# Altium integrated library Capacitor - Aluminium TH.IntLib: 4591 symbols (part 44 of 68)
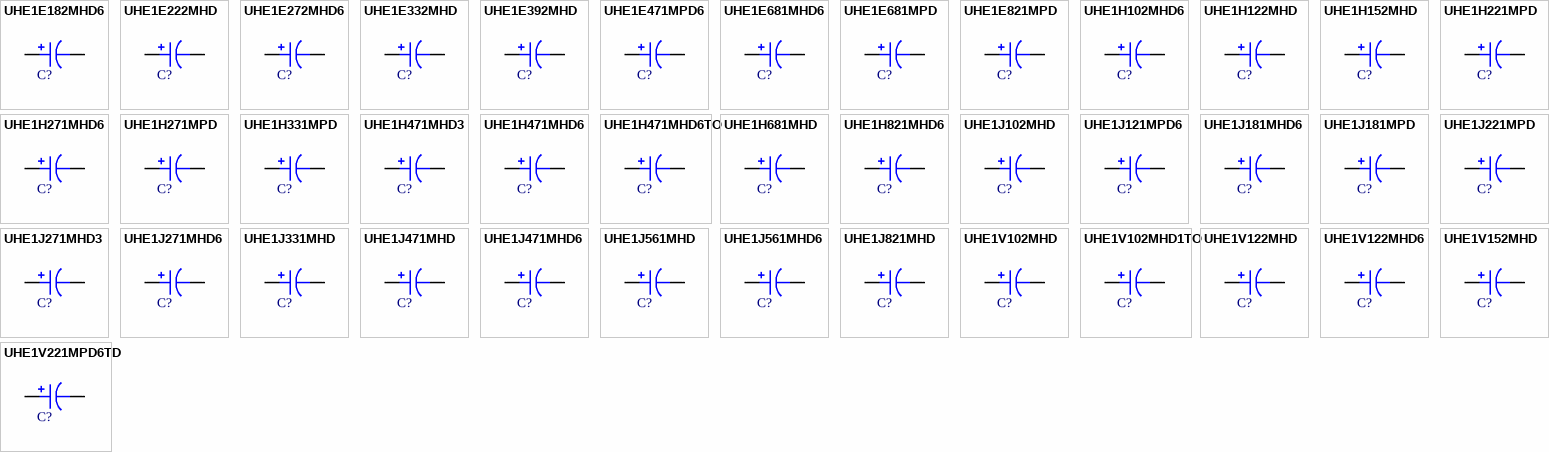
[diagram p157: symbols UHE1E182MHD6 to UHE1V221MPD6TD]

## UHE1V102MHD
designator C?, comment 1000uF  (value not drawn)
CAP ALUM 1000UF 20% 35V RADIAL; Part Number: UHE1V102MHD; Manufacturer: Nichicon; TemperatureRange: -40C ~ 105C; Type: Polar; Ripple Current: 1.6725A @ 120Hz; Impedance: 27 mOhm; Value: 1000uF; PartId: 23575; Supplier 1: Digi-Key; Supplier Part Number 1: 493-1588-ND; ComponentLink1Description: Datasheet; ComponentLink1URL: http://nichicon-us.com/english/products/pdfs/e-uhe.pdf; ComponentLink2Description: Digi-Key Listing; ComponentLink2URL: https://www.digikey.com/product-detail/en/nichicon/UHE1V102MHD/493-1588-ND/589329; Tolerance: 20%; Voltage: 35V; Price: 0.98; Device Package: Radial, Can, 12.5mm
footprint CAP AL TH D12.5 L5 H25
pins: 1, 2

## UHE1V102MHD1TO
designator C?, comment 1000uF  (value not drawn)
CAP ALUM 1000UF 20% 35V RADIAL; Part Number: UHE1V102MHD1TO; Manufacturer: Nichicon; TemperatureRange: -40C ~ 105C; Type: Polar; Ripple Current: 1.6725A @ 120Hz; Impedance: 21 mOhm; Value: 1000uF; PartId: 23943; Supplier 1: Digi-Key; Supplier Part Number 1: 493-14551-1-ND; ComponentLink1Description: Datasheet; ComponentLink1URL: http://nichicon-us.com/english/products/pdfs/e-uhe.pdf; ComponentLink2Description: Digi-Key Listing; ComponentLink2URL: https://www.digikey.com/product-detail/en/nichicon/UHE1V102MHD1TO/493-14551-1-ND/5800251; Tolerance: 20%; Voltage: 35V; Price: 0.97; Device Package: Radial, Can, 12.5mm
footprint CAP AL TH D12.5 L5 H27
pins: 1, 2

## UHE1V122MHD
designator C?, comment 1200uF  (value not drawn)
CAP ALUM 1200UF 20% 35V RADIAL; Part Number: UHE1V122MHD; Manufacturer: Nichicon; TemperatureRange: -40C ~ 105C; Type: Polar; Ripple Current: 2.12A @ 120Hz; Impedance: 24 mOhm; Value: 1200uF; PartId: 24212; Supplier 1: Digi-Key; Supplier Part Number 1: 493-1590-ND; ComponentLink1Description: Datasheet; ComponentLink1URL: http://nichicon-us.com/english/products/pdfs/e-uhe.pdf; ComponentLink2Description: Digi-Key Listing; ComponentLink2URL: https://www.digikey.com/product-detail/en/nichicon/UHE1V122MHD/493-1590-ND/589331; Tolerance: 20%; Voltage: 35V; Price: 0.95; Device Package: Radial, Can, 12.5mm
footprint CAP AL TH D12.5 L5 H35.5
pins: 1, 2

## UHE1V122MHD6
designator C?, comment 1200uF  (value not drawn)
CAP ALUM 1200UF 20% 35V RADIAL; Part Number: UHE1V122MHD6; Manufacturer: Nichicon; TemperatureRange: -40C ~ 105C; Type: Polar; Ripple Current: 2.024A @ 120Hz; Impedance: 27 mOhm; Value: 1200uF; PartId: 26300; Supplier 1: Digi-Key; Supplier Part Number 1: 493-1591-ND; ComponentLink1Description: Datasheet; ComponentLink1URL: http://nichicon-us.com/english/products/pdfs/e-uhe.pdf; ComponentLink2Description: Digi-Key Listing; ComponentLink2URL: https://www.digikey.com/product-detail/en/nichicon/UHE1V122MHD6/493-1591-ND/589332; Tolerance: 20%; Voltage: 35V; Price: 1.13; Device Package: Radial, Can, 16mm
footprint CAP AL TH D16 L7.5 H20
pins: 1, 2

## UHE1V152MHD
designator C?, comment 1500uF  (value not drawn)
CAP ALUM 1500UF 20% 35V RADIAL; Part Number: UHE1V152MHD; Manufacturer: Nichicon; TemperatureRange: -40C ~ 105C; Type: Polar; Ripple Current: 2.304A @ 120Hz; Impedance: 20 mOhm; Value: 1500uF; PartId: 24288; Supplier 1: Digi-Key; Supplier Part Number 1: 493-1592-ND; ComponentLink1Description: Datasheet; ComponentLink1URL: http://nichicon-us.com/english/products/pdfs/e-uhe.pdf; ComponentLink2Description: Digi-Key Listing; ComponentLink2URL: https://www.digikey.com/product-detail/en/nichicon/UHE1V152MHD/493-1592-ND/589333; Tolerance: 20%; Voltage: 35V; Price: 1.12; Device Package: Radial, Can, 12.5mm
footprint CAP AL TH D12.5 L5 H35.5
pins: 1, 2

## UHE1V221MPD6TD
designator C?, comment 220uF  (value not drawn)
CAP ALUM 220UF 20% 35V RADIAL; Part Number: UHE1V221MPD6TD; Manufacturer: Nichicon; TemperatureRange: -40C ~ 105C; Type: Polar; Ripple Current: 605.5mA @ 120Hz; Impedance: 80 mOhm; Value: 220uF; PartId: 24528; Supplier 1: Digi-Key; Supplier Part Number 1: 493-14552-3-ND; ComponentLink1Description: Datasheet; ComponentLink1URL: http://nichicon-us.com/english/products/pdfs/e-uhe.pdf; ComponentLink2Description: Digi-Key Listing; ComponentLink2URL: https://www.digikey.com/product-detail/en/nichicon/UHE1V221MPD6TD/493-14552-3-ND/4992405; Tolerance: 20%; Voltage: 35V; Price: 0.1426; Device Package: Radial, Can, 10mm
footprint CAP AL TH D10 L5 H14.5
pins: 1, 2

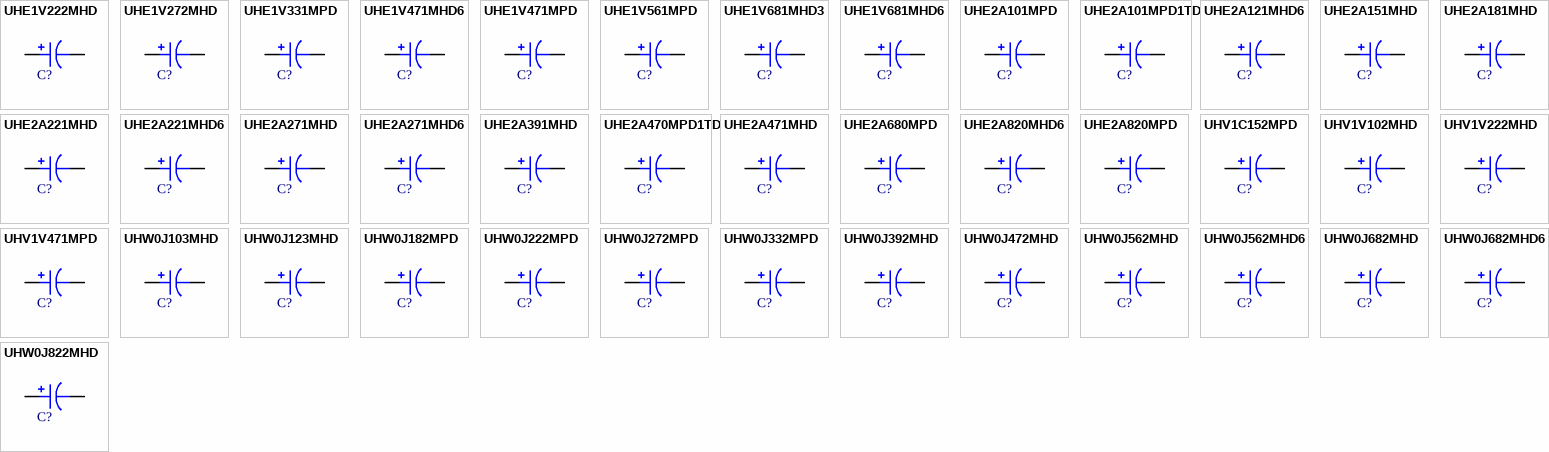
[diagram p72: symbols UHE1V222MHD to UHW0J822MHD]

## UHE1V222MHD
designator C?, comment 2200uF  (value not drawn)
CAP ALUM 2200UF 20% 35V RADIAL; Part Number: UHE1V222MHD; Manufacturer: Nichicon; TemperatureRange: -40C ~ 105C; Type: Polar; Ripple Current: 2.76A @ 120Hz; Impedance: 17 mOhm; Value: 2200uF; PartId: 27084; Supplier 1: Digi-Key; Supplier Part Number 1: 493-1596-ND; ComponentLink1Description: Datasheet; ComponentLink1URL: http://nichicon-us.com/english/products/pdfs/e-uhe.pdf; ComponentLink2Description: Digi-Key Listing; ComponentLink2URL: https://www.digikey.com/product-detail/en/nichicon/UHE1V222MHD/493-1596-ND/589337; Tolerance: 20%; Voltage: 35V; Price: 1.69; Device Package: Radial, Can, 16mm
footprint CAP AL TH D16 L7.5 H33.5
pins: 1, 2

## UHE1V272MHD
designator C?, comment 2700uF  (value not drawn)
CAP ALUM 2700UF 20% 35V RADIAL; Part Number: UHE1V272MHD; Manufacturer: Nichicon; TemperatureRange: -40C ~ 105C; Type: Polar; Ripple Current: 2.888A @ 120Hz; Impedance: 15 mOhm; Value: 2700uF; PartId: 27386; Supplier 1: Digi-Key; Supplier Part Number 1: 493-1598-ND; ComponentLink1Description: Datasheet; ComponentLink1URL: http://nichicon-us.com/english/products/pdfs/e-uhe.pdf; ComponentLink2Description: Digi-Key Listing; ComponentLink2URL: https://www.digikey.com/product-detail/en/nichicon/UHE1V272MHD/493-1598-ND/589339; Tolerance: 20%; Voltage: 35V; Price: 1.88; Device Package: Radial, Can, 16mm
footprint CAP AL TH D16 L7.5 H37
pins: 1, 2

## UHE1V331MPD
designator C?, comment 330uF  (value not drawn)
CAP ALUM 330UF 20% 35V RADIAL; Part Number: UHE1V331MPD; Manufacturer: Nichicon; TemperatureRange: -40C ~ 105C; Type: Polar; Ripple Current: 847mA @ 120Hz; Impedance: 60 mOhm; Value: 330uF; PartId: 25235; Supplier 1: Digi-Key; Supplier Part Number 1: 493-1581-ND; ComponentLink1Description: Datasheet; ComponentLink1URL: http://nichicon-us.com/english/products/pdfs/e-uhe.pdf; ComponentLink2Description: Digi-Key Listing; ComponentLink2URL: https://www.digikey.com/product-detail/en/nichicon/UHE1V331MPD/493-1581-ND/589322; Tolerance: 20%; Voltage: 35V; Price: 0.56; Device Package: Radial, Can, 10mm
footprint CAP AL TH D10 L5 H17.5
pins: 1, 2

## UHE1V471MHD6
designator C?, comment 470uF  (value not drawn)
CAP ALUM 470UF 20% 35V RADIAL; Part Number: UHE1V471MHD6; Manufacturer: Nichicon; TemperatureRange: -40C ~ 105C; Type: Polar; Ripple Current: 1.0875A @ 120Hz; Impedance: 49 mOhm; Value: 470uF; PartId: 22709; Supplier 1: Digi-Key; Supplier Part Number 1: 493-1583-ND; ComponentLink1Description: Datasheet; ComponentLink1URL: http://nichicon-us.com/english/products/pdfs/e-uhe.pdf; ComponentLink2Description: Digi-Key Listing; ComponentLink2URL: https://www.digikey.com/product-detail/en/nichicon/UHE1V471MHD6/493-1583-ND/589324; Tolerance: 20%; Voltage: 35V; Price: 0; Device Package: Radial, Can, 12.5mm
footprint CAP AL TH D12.5 L5 H15
pins: 1, 2

## UHE1V471MPD
designator C?, comment 470uF  (value not drawn)
CAP ALUM 470UF 20% 35V RADIAL; Part Number: UHE1V471MPD; Manufacturer: Nichicon; TemperatureRange: -40C ~ 105C; Type: Polar; Ripple Current: 1.05A @ 120Hz; Impedance: 46 mOhm; Value: 470uF; PartId: 25552; Supplier 1: Digi-Key; Supplier Part Number 1: 493-1582-ND; ComponentLink1Description: Datasheet; ComponentLink1URL: http://nichicon-us.com/english/products/pdfs/e-uhe.pdf; ComponentLink2Description: Digi-Key Listing; ComponentLink2URL: https://www.digikey.com/product-detail/en/nichicon/UHE1V471MPD/493-1582-ND/589323; Tolerance: 20%; Voltage: 35V; Price: 0.64; Device Package: Radial, Can, 10mm
footprint CAP AL TH D10 L5 H22
pins: 1, 2

## UHE1V561MPD
designator C?, comment 560uF  (value not drawn)
CAP ALUM 560UF 20% 35V RADIAL; Part Number: UHE1V561MPD; Manufacturer: Nichicon; TemperatureRange: -40C ~ 105C; Type: Polar; Ripple Current: 1.2375A @ 120Hz; Impedance: 42 mOhm; Value: 560uF; PartId: 26084; Supplier 1: Digi-Key; Supplier Part Number 1: 493-1584-ND; ComponentLink1Description: Datasheet; ComponentLink1URL: http://nichicon-us.com/english/products/pdfs/e-uhe.pdf; ComponentLink2Description: Digi-Key Listing; ComponentLink2URL: https://www.digikey.com/product-detail/en/nichicon/UHE1V561MPD/493-1584-ND/589325; Tolerance: 20%; Voltage: 35V; Price: 0.73; Device Package: Radial, Can, 10mm
footprint CAP AL TH D10 L5 H30
pins: 1, 2

## UHE1V681MHD3
designator C?, comment 680uF  (value not drawn)
CAP ALUM 680UF 20% 35V RADIAL; Part Number: UHE1V681MHD3; Manufacturer: Nichicon; TemperatureRange: -40C ~ 105C; Type: Polar; Ripple Current: 1.455A @ 120Hz; Impedance: 42 mOhm; Value: 680uF; PartId: 26212; Supplier 1: Digi-Key; Supplier Part Number 1: 493-1587-ND; ComponentLink1Description: Datasheet; ComponentLink1URL: http://nichicon-us.com/english/products/pdfs/e-uhe.pdf; ComponentLink2Description: Digi-Key Listing; ComponentLink2URL: https://www.digikey.com/product-detail/en/nichicon/UHE1V681MHD3/493-1587-ND/589328; Tolerance: 20%; Voltage: 35V; Price: 0.99; Device Package: Radial, Can, 16mm
footprint CAP AL TH D16 L7.5 H16.5
pins: 1, 2

## UHE1V681MHD6
designator C?, comment 680uF  (value not drawn)
CAP ALUM 680UF 20% 35V RADIAL; Part Number: UHE1V681MHD6; Manufacturer: Nichicon; TemperatureRange: -40C ~ 105C; Type: Polar; Ripple Current: 1.425A @ 120Hz; Impedance: 35 mOhm; Value: 680uF; PartId: 22877; Supplier 1: Digi-Key; Supplier Part Number 1: 493-1586-ND; ComponentLink1Description: Datasheet; ComponentLink1URL: http://nichicon-us.com/english/products/pdfs/e-uhe.pdf; ComponentLink2Description: Digi-Key Listing; ComponentLink2URL: https://www.digikey.com/product-detail/en/nichicon/UHE1V681MHD6/493-1586-ND/589327; Tolerance: 20%; Voltage: 35V; Price: 0; Device Package: Radial, Can, 12.5mm
footprint CAP AL TH D12.5 L5 H20
pins: 1, 2

## UHE2A101MPD
designator C?, comment 100uF  (value not drawn)
CAP ALUM 100UF 20% 100V RADIAL; Part Number: UHE2A101MPD; Manufacturer: Nichicon; TemperatureRange: -40C ~ 105C; Type: Polar; Ripple Current: 416.5mA @ 120Hz; Impedance: 200 mOhm; Value: 100uF; PartId: 26044; Supplier 1: Digi-Key; Supplier Part Number 1: 493-1668-ND; ComponentLink1Description: Datasheet; ComponentLink1URL: http://nichicon-us.com/english/products/pdfs/e-uhe.pdf; ComponentLink2Description: Digi-Key Listing; ComponentLink2URL: https://www.digikey.com/product-detail/en/nichicon/UHE2A101MPD/493-1668-ND/589409; Tolerance: 20%; Voltage: 100V; Price: 0.56; Device Package: Radial, Can, 10mm
footprint CAP AL TH D10 L5 H30
pins: 1, 2

## UHE2A101MPD1TD
designator C?, comment 100uF  (value not drawn)
CAP ALUM 100UF 20% 100V RADIAL; Part Number: UHE2A101MPD1TD; Manufacturer: Nichicon; TemperatureRange: -40C ~ 105C; Type: Polar; Ripple Current: 416.5mA @ 120Hz; Impedance: 200 mOhm; Value: 100uF; PartId: 26000; Supplier 1: Digi-Key; Supplier Part Number 1: 493-14554-3-ND; ComponentLink1Description: Datasheet; ComponentLink1URL: http://nichicon-us.com/english/products/pdfs/e-uhe.pdf; ComponentLink2Description: Digi-Key Listing; ComponentLink2URL: https://www.digikey.com/product-detail/en/nichicon/UHE2A101MPD1TD/493-14554-3-ND/4992419; Tolerance: 20%; Voltage: 100V; Price: 0.193; Device Package: Radial, Can, 10mm
footprint CAP AL TH D10 L5 H30
pins: 1, 2

## UHE2A121MHD6
designator C?, comment 120uF  (value not drawn)
CAP ALUM 120UF 20% 100V RADIAL; Part Number: UHE2A121MHD6; Manufacturer: Nichicon; TemperatureRange: -40C ~ 105C; Type: Polar; Ripple Current: 535.5mA @ 120Hz; Impedance: 160 mOhm; Value: 120uF; PartId: 22850; Supplier 1: Digi-Key; Supplier Part Number 1: 493-1670-ND; ComponentLink1Description: Datasheet; ComponentLink1URL: http://nichicon-us.com/english/products/pdfs/e-uhe.pdf; ComponentLink2Description: Digi-Key Listing; ComponentLink2URL: https://www.digikey.com/product-detail/en/nichicon/UHE2A121MHD6/493-1670-ND/589411; Tolerance: 20%; Voltage: 100V; Price: 0; Device Package: Radial, Can, 12.5mm
footprint CAP AL TH D12.5 L5 H20
pins: 1, 2

## UHE2A151MHD
designator C?, comment 150uF  (value not drawn)
CAP ALUM 150UF 20% 100V RADIAL; Part Number: UHE2A151MHD; Manufacturer: Nichicon; TemperatureRange: -40C ~ 105C; Type: Polar; Ripple Current: 626.5mA @ 120Hz; Impedance: 140 mOhm; Value: 150uF; PartId: 26209; Supplier 1: Digi-Key; Supplier Part Number 1: 493-1671-ND; ComponentLink1Description: Datasheet; ComponentLink1URL: http://nichicon-us.com/english/products/pdfs/e-uhe.pdf; ComponentLink2Description: Digi-Key Listing; ComponentLink2URL: https://www.digikey.com/product-detail/en/nichicon/UHE2A151MHD/493-1671-ND/589412; Tolerance: 20%; Voltage: 100V; Price: 0.82; Device Package: Radial, Can, 16mm
footprint CAP AL TH D16 L7.5 H16.5
pins: 1, 2

## UHE2A181MHD
designator C?, comment 180uF  (value not drawn)
CAP ALUM 180UF 20% 100V RADIAL; Part Number: UHE2A181MHD; Manufacturer: Nichicon; TemperatureRange: -40C ~ 105C; Type: Polar; Ripple Current: 612.5mA @ 120Hz; Impedance: 120 mOhm; Value: 180uF; PartId: 23562; Supplier 1: Digi-Key; Supplier Part Number 1: 493-1672-ND; ComponentLink1Description: Datasheet; ComponentLink1URL: http://nichicon-us.com/english/products/pdfs/e-uhe.pdf; ComponentLink2Description: Digi-Key Listing; ComponentLink2URL: https://www.digikey.com/product-detail/en/nichicon/UHE2A181MHD/493-1672-ND/589413; Tolerance: 20%; Voltage: 100V; Price: 0.88; Device Package: Radial, Can, 12.5mm
footprint CAP AL TH D12.5 L5 H25
pins: 1, 2

## UHE2A221MHD
designator C?, comment 220uF  (value not drawn)
CAP ALUM 220UF 20% 100V RADIAL; Part Number: UHE2A221MHD; Manufacturer: Nichicon; TemperatureRange: -40C ~ 105C; Type: Polar; Ripple Current: 707mA @ 120Hz; Impedance: 100 mOhm; Value: 220uF; PartId: 24201; Supplier 1: Digi-Key; Supplier Part Number 1: 493-1674-ND; ComponentLink1Description: Datasheet; ComponentLink1URL: http://nichicon-us.com/english/products/pdfs/e-uhe.pdf; ComponentLink2Description: Digi-Key Listing; ComponentLink2URL: https://www.digikey.com/product-detail/en/nichicon/UHE2A221MHD/493-1674-ND/589415; Tolerance: 20%; Voltage: 100V; Price: 0.87; Device Package: Radial, Can, 12.5mm
footprint CAP AL TH D12.5 L5 H35.5
pins: 1, 2

## UHE2A221MHD6
designator C?, comment 220uF  (value not drawn)
CAP ALUM 220UF 20% 100V RADIAL; Part Number: UHE2A221MHD6; Manufacturer: Nichicon; TemperatureRange: -40C ~ 105C; Type: Polar; Ripple Current: 791mA @ 120Hz; Impedance: 91 mOhm; Value: 220uF; PartId: 26302; Supplier 1: Digi-Key; Supplier Part Number 1: 493-1675-ND; ComponentLink1Description: Datasheet; ComponentLink1URL: http://nichicon-us.com/english/products/pdfs/e-uhe.pdf; ComponentLink2Description: Digi-Key Listing; ComponentLink2URL: https://www.digikey.com/product-detail/en/nichicon/UHE2A221MHD6/493-1675-ND/589416; Tolerance: 20%; Voltage: 100V; Price: 1.15; Device Package: Radial, Can, 16mm
footprint CAP AL TH D16 L7.5 H20
pins: 1, 2

## UHE2A271MHD
designator C?, comment 270uF  (value not drawn)
CAP ALUM 270UF 20% 100V RADIAL; Part Number: UHE2A271MHD; Manufacturer: Nichicon; TemperatureRange: -40C ~ 105C; Type: Polar; Ripple Current: 798mA @ 120Hz; Impedance: 83 mOhm; Value: 270uF; PartId: 24236; Supplier 1: Digi-Key; Supplier Part Number 1: 493-1676-ND; ComponentLink1Description: Datasheet; ComponentLink1URL: http://nichicon-us.com/english/products/pdfs/e-uhe.pdf; ComponentLink2Description: Digi-Key Listing; ComponentLink2URL: https://www.digikey.com/product-detail/en/nichicon/UHE2A271MHD/493-1676-ND/589417; Tolerance: 20%; Voltage: 100V; Price: 0.99; Device Package: Radial, Can, 12.5mm
footprint CAP AL TH D12.5 L5 H35.5
pins: 1, 2

## UHE2A271MHD6
designator C?, comment 270uF  (value not drawn)
CAP ALUM 270UF 20% 100V RADIAL; Part Number: UHE2A271MHD6; Manufacturer: Nichicon; TemperatureRange: -40C ~ 105C; Type: Polar; Ripple Current: 945mA @ 120Hz; Impedance: 73 mOhm; Value: 270uF; PartId: 26566; Supplier 1: Digi-Key; Supplier Part Number 1: 493-1677-ND; ComponentLink1Description: Datasheet; ComponentLink1URL: http://nichicon-us.com/english/products/pdfs/e-uhe.pdf; ComponentLink2Description: Digi-Key Listing; ComponentLink2URL: https://www.digikey.com/product-detail/en/nichicon/UHE2A271MHD6/493-1677-ND/589418; Tolerance: 20%; Voltage: 100V; Price: 1.15; Device Package: Radial, Can, 16mm
footprint CAP AL TH D16 L7.5 H26.5
pins: 1, 2

## UHE2A391MHD
designator C?, comment 390uF  (value not drawn)
CAP ALUM 390UF 20% 100V RADIAL; Part Number: UHE2A391MHD; Manufacturer: Nichicon; TemperatureRange: -40C ~ 105C; Type: Polar; Ripple Current: 1.2375A @ 120Hz; Impedance: 54 mOhm; Value: 390uF; PartId: 27000; Supplier 1: Digi-Key; Supplier Part Number 1: 493-1680-ND; ComponentLink1Description: Datasheet; ComponentLink1URL: http://nichicon-us.com/english/products/pdfs/e-uhe.pdf; ComponentLink2Description: Digi-Key Listing; ComponentLink2URL: https://www.digikey.com/product-detail/en/nichicon/UHE2A391MHD/493-1680-ND/589421; Tolerance: 20%; Voltage: 100V; Price: 1.34; Device Package: Radial, Can, 16mm
footprint CAP AL TH D16 L7.5 H33.5
pins: 1, 2

## UHE2A470MPD1TD
designator C?, comment 47uF  (value not drawn)
CAP ALUM 47UF 20% 100V RADIAL; Part Number: UHE2A470MPD1TD; Manufacturer: Nichicon; TemperatureRange: -40C ~ 105C; Type: Polar; Ripple Current: 227.5mA @ 120Hz; Impedance: 630 mOhm; Value: 47uF; PartId: 24816; Supplier 1: Digi-Key; Supplier Part Number 1: 493-14555-1-ND; ComponentLink1Description: Datasheet; ComponentLink1URL: http://nichicon-us.com/english/products/pdfs/e-uhe.pdf; ComponentLink2Description: Digi-Key Listing; ComponentLink2URL: https://www.digikey.com/product-detail/en/nichicon/UHE2A470MPD1TD/493-14555-1-ND/5800255; Tolerance: 20%; Voltage: 100V; Price: 0.45; Device Package: Radial, Can, 10mm
footprint CAP AL TH D10 L5 H14.5
pins: 1, 2

## UHE2A471MHD
designator C?, comment 470uF  (value not drawn)
CAP ALUM 470UF 20% 100V RADIAL; Part Number: UHE2A471MHD; Manufacturer: Nichicon; TemperatureRange: -40C ~ 105C; Type: Polar; Ripple Current: 1.425A @ 120Hz; Impedance: 45 mOhm; Value: 470uF; PartId: 27336; Supplier 1: Digi-Key; Supplier Part Number 1: 493-1682-ND; ComponentLink1Description: Datasheet; ComponentLink1URL: http://nichicon-us.com/english/products/pdfs/e-uhe.pdf; ComponentLink2Description: Digi-Key Listing; ComponentLink2URL: https://www.digikey.com/product-detail/en/nichicon/UHE2A471MHD/493-1682-ND/589423; Tolerance: 20%; Voltage: 100V; Price: 1.65; Device Package: Radial, Can, 16mm
footprint CAP AL TH D16 L7.5 H37
pins: 1, 2

## UHE2A680MPD
designator C?, comment 68uF  (value not drawn)
CAP ALUM 68UF 20% 100V RADIAL; Part Number: UHE2A680MPD; Manufacturer: Nichicon; TemperatureRange: -40C ~ 105C; Type: Polar; Ripple Current: 280mA @ 120Hz; Impedance: 310 mOhm; Value: 68uF; PartId: 25171; Supplier 1: Digi-Key; Supplier Part Number 1: 493-1665-ND; ComponentLink1Description: Datasheet; ComponentLink1URL: http://nichicon-us.com/english/products/pdfs/e-uhe.pdf; ComponentLink2Description: Digi-Key Listing; ComponentLink2URL: https://www.digikey.com/product-detail/en/nichicon/UHE2A680MPD/493-1665-ND/589406; Tolerance: 20%; Voltage: 100V; Price: 0.45; Device Package: Radial, Can, 10mm
footprint CAP AL TH D10 L5 H17.5
pins: 1, 2

## UHE2A820MHD6
designator C?, comment 82uF  (value not drawn)
CAP ALUM 82UF 20% 100V RADIAL; Part Number: UHE2A820MHD6; Manufacturer: Nichicon; TemperatureRange: -40C ~ 105C; Type: Polar; Ripple Current: 368.9mA @ 120Hz; Impedance: 230 mOhm; Value: 82uF; PartId: 22706; Supplier 1: Digi-Key; Supplier Part Number 1: 493-1667-ND; ComponentLink1Description: Datasheet; ComponentLink1URL: http://nichicon-us.com/english/products/pdfs/e-uhe.pdf; ComponentLink2Description: Digi-Key Listing; ComponentLink2URL: https://www.digikey.com/product-detail/en/nichicon/UHE2A820MHD6/493-1667-ND/589408; Tolerance: 20%; Voltage: 100V; Price: 0; Device Package: Radial, Can, 12.5mm
footprint CAP AL TH D12.5 L5 H15
pins: 1, 2

## UHE2A820MPD
designator C?, comment 82uF  (value not drawn)
CAP ALUM 82UF 20% 100V RADIAL; Part Number: UHE2A820MPD; Manufacturer: Nichicon; TemperatureRange: -40C ~ 105C; Type: Polar; Ripple Current: 362.6mA @ 120Hz; Impedance: 210 mOhm; Value: 82uF; PartId: 25511; Supplier 1: Digi-Key; Supplier Part Number 1: 493-1666-ND; ComponentLink1Description: Datasheet; ComponentLink1URL: http://nichicon-us.com/english/products/pdfs/e-uhe.pdf; ComponentLink2Description: Digi-Key Listing; ComponentLink2URL: https://www.digikey.com/product-detail/en/nichicon/UHE2A820MPD/493-1666-ND/589407; Tolerance: 20%; Voltage: 100V; Price: 0.54; Device Package: Radial, Can, 10mm
footprint CAP AL TH D10 L5 H22
pins: 1, 2

## UHV1C152MPD
designator C?, comment 1500uF  (value not drawn)
CAP ALUM 1500UF 20% 16V RADIAL; Part Number: UHV1C152MPD; Manufacturer: Nichicon; TemperatureRange: -40C ~ 105C; Type: Polar; Ripple Current: 1.296A @ 120Hz; Impedance: 19 mOhm; Value: 1500uF; PartId: 25893; Supplier 1: Digi-Key; Supplier Part Number 1: 493-14472-ND; ComponentLink1Description: Datasheet; ComponentLink1URL: http://nichicon-us.com/english/products/pdfs/e-uhv.pdf; ComponentLink2Description: Digi-Key Listing; ComponentLink2URL: https://www.digikey.com/product-detail/en/nichicon/UHV1C152MPD/493-14472-ND/2598239; Tolerance: 20%; Voltage: 16V; Price: 0.66; Device Package: Radial, Can, 10mm
footprint CAP AL TH D10 L5 H22
pins: 1, 2

## UHV1V102MHD
designator C?, comment 1000uF  (value not drawn)
CAP ALUM 1000UF 20% 35V RADIAL; Part Number: UHV1V102MHD; Manufacturer: Nichicon; TemperatureRange: -40C ~ 105C; Type: Polar; Ripple Current: 1.752A; Impedance: 16 mOhm; Value: 1000uF; PartId: 23328; Supplier 1: Digi-Key; Supplier Part Number 1: 493-14473-ND; ComponentLink1Description: Datasheet; ComponentLink1URL: http://nichicon-us.com/english/products/pdfs/e-uhv.pdf; ComponentLink2Description: Digi-Key Listing; ComponentLink2URL: https://www.digikey.com/product-detail/en/nichicon/UHV1V102MHD/493-14473-ND/4992542; Tolerance: 20%; Voltage: 35V; Price: 0.82; Device Package: Radial, Can, 12.5mm
footprint CAP AL TH D12.5 L5 H22
pins: 1, 2

## UHV1V222MHD
designator C?, comment 2200uF  (value not drawn)
CAP ALUM 2200UF 20% 35V RADIAL; Part Number: UHV1V222MHD; Manufacturer: Nichicon; TemperatureRange: -40C ~ 105C; Type: Polar; Ripple Current: 2.992A @ 120Hz; Impedance: 12 mOhm; Value: 2200uF; PartId: 26886; Supplier 1: Digi-Key; Supplier Part Number 1: 493-14475-ND; ComponentLink1Description: Datasheet; ComponentLink1URL: http://nichicon-us.com/english/products/pdfs/e-uhv.pdf; ComponentLink2Description: Digi-Key Listing; ComponentLink2URL: https://www.digikey.com/product-detail/en/nichicon/UHV1V222MHD/493-14475-ND/2598278; Tolerance: 20%; Voltage: 35V; Price: 1.31; Device Package: Radial, Can, 16mm
footprint CAP AL TH D16 L7.5 H27
pins: 1, 2

## UHV1V471MPD
designator C?, comment 470uF  (value not drawn)
CAP ALUM 470UF 20% 35V RADIAL; Part Number: UHV1V471MPD; Manufacturer: Nichicon; TemperatureRange: -40C ~ 105C; Type: Polar; Ripple Current: 907.5mA @ 120Hz; Impedance: 30 mOhm; Value: 470uF; PartId: 25340; Supplier 1: Digi-Key; Supplier Part Number 1: 493-14476-ND; ComponentLink1Description: Datasheet; ComponentLink1URL: http://nichicon-us.com/english/products/pdfs/e-uhv.pdf; ComponentLink2Description: Digi-Key Listing; ComponentLink2URL: https://www.digikey.com/product-detail/en/nichicon/UHV1V471MPD/493-14476-ND/2598283; Tolerance: 20%; Voltage: 35V; Price: 0.67; Device Package: Radial, Can, 10mm
footprint CAP AL TH D10 L5 H17.5
pins: 1, 2

## UHW0J103MHD
designator C?, comment 10000uF  (value not drawn)
CAP ALUM 10000UF 20% 6.3V RADIAL; Part Number: UHW0J103MHD; Manufacturer: Nichicon; TemperatureRange: -40C ~ 105C; Type: Polar; Ripple Current: 3.239A @ 120Hz; Impedance: 13 mOhm; Value: 10000uF; PartId: 26959; Supplier 1: Digi-Key; Supplier Part Number 1: 493-6911-ND; ComponentLink1Description: Datasheet; ComponentLink1URL: http://nichicon-us.com/english/products/pdfs/e-uhw.pdf; ComponentLink2Description: Digi-Key Listing; ComponentLink2URL: https://www.digikey.com/product-detail/en/nichicon/UHW0J103MHD/493-6911-ND/3664366; Tolerance: 20%; Voltage: 6.3V; Price: 2.11; Device Package: Radial, Can, 16mm
footprint CAP AL TH D16 L7.5 H27
pins: 1, 2

## UHW0J123MHD
designator C?, comment 12000uF  (value not drawn)
CAP ALUM 12000UF 20% 6.3V RADIAL; Part Number: UHW0J123MHD; Manufacturer: Nichicon; TemperatureRange: -40C ~ 105C; Type: Polar; Ripple Current: 3.4A @ 120Hz; Impedance: 11 mOhm; Value: 12000uF; PartId: 27233; Supplier 1: Digi-Key; Supplier Part Number 1: 493-6876-ND; ComponentLink1Description: Datasheet; ComponentLink1URL: http://nichicon-us.com/english/products/pdfs/e-uhw.pdf; ComponentLink2Description: Digi-Key Listing; ComponentLink2URL: https://www.digikey.com/product-detail/en/nichicon/UHW0J123MHD/493-6876-ND/3664463; Tolerance: 20%; Voltage: 6.3V; Price: 2.47; Device Package: Radial, Can, 16mm
footprint CAP AL TH D16 L7.5 H33.5
pins: 1, 2

## UHW0J182MPD
designator C?, comment 1800uF  (value not drawn)
CAP ALUM 1800UF 20% 6.3V RADIAL; Part Number: UHW0J182MPD; Manufacturer: Nichicon; TemperatureRange: -40C ~ 105C; Type: Polar; Ripple Current: 1.2A @ 120Hz; Impedance: 30 mOhm; Value: 1800uF; PartId: 25403; Supplier 1: Digi-Key; Supplier Part Number 1: 493-6974-ND; ComponentLink1Description: Datasheet; ComponentLink1URL: http://nichicon-us.com/english/products/pdfs/e-uhw.pdf; ComponentLink2Description: Digi-Key Listing; ComponentLink2URL: https://www.digikey.com/product-detail/en/nichicon/UHW0J182MPD/493-6974-ND/3664440; Tolerance: 20%; Voltage: 6.3V; Price: 0.8; Device Package: Radial, Can, 10mm
footprint CAP AL TH D10 L5 H17.5
pins: 1, 2

## UHW0J222MPD
designator C?, comment 2200uF  (value not drawn)
CAP ALUM 2200UF 20% 6.3V RADIAL; Part Number: UHW0J222MPD; Manufacturer: Nichicon; TemperatureRange: -40C ~ 105C; Type: Polar; Ripple Current: 1.875A @ 120Hz; Impedance: 19 mOhm; Value: 2200uF; PartId: 25977; Supplier 1: Digi-Key; Supplier Part Number 1: 493-6805-ND; ComponentLink1Description: Datasheet; ComponentLink1URL: http://nichicon-us.com/english/products/pdfs/e-uhw.pdf; ComponentLink2Description: Digi-Key Listing; ComponentLink2URL: https://www.digikey.com/product-detail/en/nichicon/UHW0J222MPD/493-6805-ND/3664445; Tolerance: 20%; Voltage: 6.3V; Price: 0.91; Device Package: Radial, Can, 10mm
footprint CAP AL TH D10 L5 H22
pins: 1, 2

## UHW0J272MPD
designator C?, comment 2700uF  (value not drawn)
CAP ALUM 2700UF 20% 6.3V RADIAL; Part Number: UHW0J272MPD; Manufacturer: Nichicon; TemperatureRange: -40C ~ 105C; Type: Polar; Ripple Current: 1.875A @ 120Hz; Impedance: 19 mOhm; Value: 2700uF; PartId: 25979; Supplier 1: Digi-Key; Supplier Part Number 1: 493-6973-ND; ComponentLink1Description: Datasheet; ComponentLink1URL: http://nichicon-us.com/english/products/pdfs/e-uhw.pdf; ComponentLink2Description: Digi-Key Listing; ComponentLink2URL: https://www.digikey.com/product-detail/en/nichicon/UHW0J272MPD/493-6973-ND/3664489; Tolerance: 20%; Voltage: 6.3V; Price: 0.91; Device Package: Radial, Can, 10mm
footprint CAP AL TH D10 L5 H22
pins: 1, 2

## UHW0J332MPD
designator C?, comment 3300uF  (value not drawn)
CAP ALUM 3300UF 20% 6.3V RADIAL; Part Number: UHW0J332MPD; Manufacturer: Nichicon; TemperatureRange: -40C ~ 105C; Type: Polar; Ripple Current: 2.175A @ 120Hz; Impedance: 17 mOhm; Value: 3300uF; PartId: 26173; Supplier 1: Digi-Key; Supplier Part Number 1: 493-6884-ND; ComponentLink1Description: Datasheet; ComponentLink1URL: http://nichicon-us.com/english/products/pdfs/e-uhw.pdf; ComponentLink2Description: Digi-Key Listing; ComponentLink2URL: https://www.digikey.com/product-detail/en/nichicon/UHW0J332MPD/493-6884-ND/3664497; Tolerance: 20%; Voltage: 6.3V; Price: 0.96; Device Package: Radial, Can, 10mm
footprint CAP AL TH D10 L5 H30
pins: 1, 2

## UHW0J392MHD
designator C?, comment 3900uF  (value not drawn)
CAP ALUM 3900UF 20% 6.3V RADIAL; Part Number: UHW0J392MHD; Manufacturer: Nichicon; TemperatureRange: -40C ~ 105C; Type: Polar; Ripple Current: 1.95A @ 120Hz; Impedance: 16 mOhm; Value: 3900uF; PartId: 23491; Supplier 1: Digi-Key; Supplier Part Number 1: 493-6828-ND; ComponentLink1Description: Datasheet; ComponentLink1URL: http://nichicon-us.com/english/products/pdfs/e-uhw.pdf; ComponentLink2Description: Digi-Key Listing; ComponentLink2URL: https://www.digikey.com/product-detail/en/nichicon/UHW0J392MHD/493-6828-ND/3664456; Tolerance: 20%; Voltage: 6.3V; Price: 1.18; Device Package: Radial, Can, 12.5mm
footprint CAP AL TH D12.5 L5 H22
pins: 1, 2

## UHW0J472MHD
designator C?, comment 4700uF  (value not drawn)
CAP ALUM 4700UF 20% 6.3V RADIAL; Part Number: UHW0J472MHD; Manufacturer: Nichicon; TemperatureRange: -40C ~ 105C; Type: Polar; Ripple Current: 2.72A @ 120Hz; Impedance: 15 mOhm; Value: 4700uF; PartId: 24135; Supplier 1: Digi-Key; Supplier Part Number 1: 493-6932-ND; ComponentLink1Description: Datasheet; ComponentLink1URL: http://nichicon-us.com/english/products/pdfs/e-uhw.pdf; ComponentLink2Description: Digi-Key Listing; ComponentLink2URL: https://www.digikey.com/product-detail/en/nichicon/UHW0J472MHD/493-6932-ND/3664502; Tolerance: 20%; Voltage: 6.3V; Price: 1.45; Device Package: Radial, Can, 12.5mm
footprint CAP AL TH D12.5 L5 H27
pins: 1, 2

## UHW0J562MHD
designator C?, comment 5600uF  (value not drawn)
CAP ALUM 5600UF 20% 6.3V RADIAL; Part Number: UHW0J562MHD; Manufacturer: Nichicon; TemperatureRange: -40C ~ 105C; Type: Polar; Ripple Current: 3.226A @ 120Hz; Impedance: 12 mOhm; Value: 5600uF; PartId: 24372; Supplier 1: Digi-Key; Supplier Part Number 1: 493-6827-ND; ComponentLink1Description: Datasheet; ComponentLink1URL: http://nichicon-us.com/english/products/pdfs/e-uhw.pdf; ComponentLink2Description: Digi-Key Listing; ComponentLink2URL: https://www.digikey.com/product-detail/en/nichicon/UHW0J562MHD/493-6827-ND/3664503; Tolerance: 20%; Voltage: 6.3V; Price: 1.61; Device Package: Radial, Can, 12.5mm
footprint CAP AL TH D12.5 L5 H35.5
pins: 1, 2

## UHW0J562MHD6
designator C?, comment 5600uF  (value not drawn)
CAP ALUM 5600UF 20% 6.3V RADIAL; Part Number: UHW0J562MHD6; Manufacturer: Nichicon; TemperatureRange: -40C ~ 105C; Type: Polar; Ripple Current: 2.72A @ 120Hz; Impedance: 15 mOhm; Value: 5600uF; PartId: 24125; Supplier 1: Digi-Key; Supplier Part Number 1: 493-6825-ND; ComponentLink1Description: Datasheet; ComponentLink1URL: http://nichicon-us.com/english/products/pdfs/e-uhw.pdf; ComponentLink2Description: Digi-Key Listing; ComponentLink2URL: https://www.digikey.com/product-detail/en/nichicon/UHW0J562MHD6/493-6825-ND/3664504; Tolerance: 20%; Voltage: 6.3V; Price: 1.43; Device Package: Radial, Can, 12.5mm
footprint CAP AL TH D12.5 L5 H27
pins: 1, 2

## UHW0J682MHD
designator C?, comment 6800uF  (value not drawn)
CAP ALUM 6800UF 20% 6.3V RADIAL; Part Number: UHW0J682MHD; Manufacturer: Nichicon; TemperatureRange: -40C ~ 105C; Type: Polar; Ripple Current: 3.226A @ 120Hz; Impedance: 11 mOhm; Value: 6800uF; PartId: 24381; Supplier 1: Digi-Key; Supplier Part Number 1: 493-6927-ND; ComponentLink1Description: Datasheet; ComponentLink1URL: http://nichicon-us.com/english/products/pdfs/e-uhw.pdf; ComponentLink2Description: Digi-Key Listing; ComponentLink2URL: https://www.digikey.com/product-detail/en/nichicon/UHW0J682MHD/493-6927-ND/3664347; Tolerance: 20%; Voltage: 6.3V; Price: 1.69; Device Package: Radial, Can, 12.5mm
footprint CAP AL TH D12.5 L5 H35.5
pins: 1, 2

## UHW0J682MHD6
designator C?, comment 6800uF  (value not drawn)
CAP ALUM 6800UF 20% 6.3V RADIAL; Part Number: UHW0J682MHD6; Manufacturer: Nichicon; TemperatureRange: -40C ~ 105C; Type: Polar; Ripple Current: 3.039A @ 120Hz; Impedance: 14 mOhm; Value: 6800uF; PartId: 26475; Supplier 1: Digi-Key; Supplier Part Number 1: 493-6881-ND; ComponentLink1Description: Datasheet; ComponentLink1URL: http://nichicon-us.com/english/products/pdfs/e-uhw.pdf; ComponentLink2Description: Digi-Key Listing; ComponentLink2URL: https://www.digikey.com/product-detail/en/nichicon/UHW0J682MHD6/493-6881-ND/3664325; Tolerance: 20%; Voltage: 6.3V; Price: 1.74; Device Package: Radial, Can, 16mm
footprint CAP AL TH D16 L7.5 H22
pins: 1, 2

## UHW0J822MHD
designator C?, comment 8200uF  (value not drawn)
CAP ALUM 8200UF 20% 6.3V RADIAL; Part Number: UHW0J822MHD; Manufacturer: Nichicon; TemperatureRange: -40C ~ 105C; Type: Polar; Ripple Current: 3.239A @ 120Hz; Impedance: 13 mOhm; Value: 8200uF; PartId: 26960; Supplier 1: Digi-Key; Supplier Part Number 1: 493-6823-ND; ComponentLink1Description: Datasheet; ComponentLink1URL: http://nichicon-us.com/english/products/pdfs/e-uhw.pdf; ComponentLink2Description: Digi-Key Listing; ComponentLink2URL: https://www.digikey.com/product-detail/en/nichicon/UHW0J822MHD/493-6823-ND/3664363; Tolerance: 20%; Voltage: 6.3V; Price: 2.11; Device Package: Radial, Can, 16mm
footprint CAP AL TH D16 L7.5 H27
pins: 1, 2

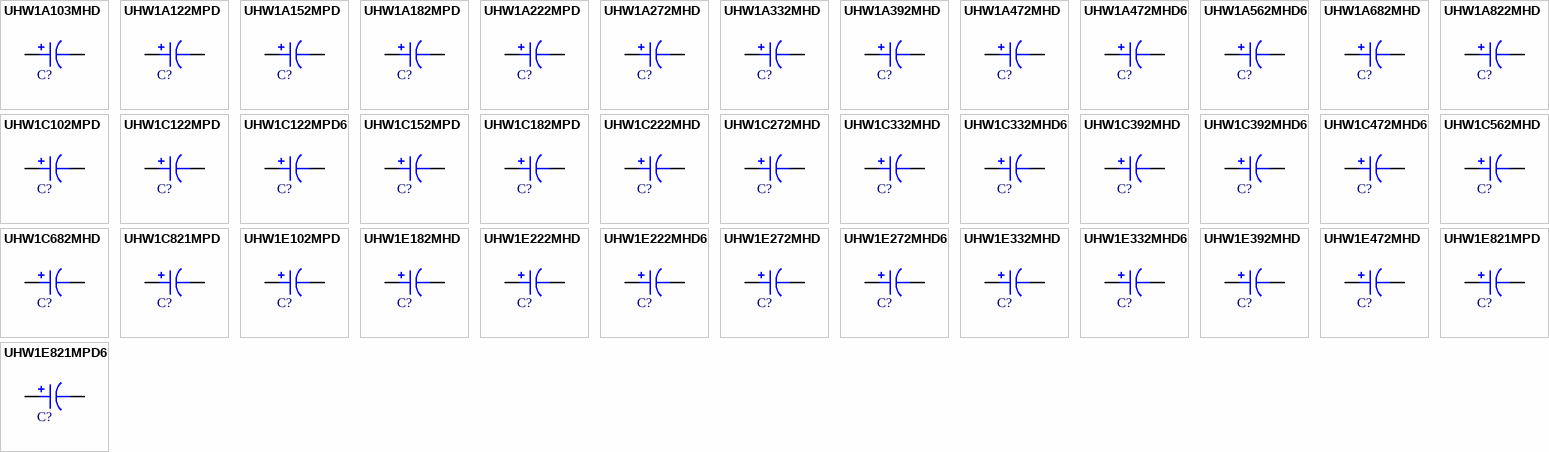
[diagram p73: symbols UHW1A103MHD to UHW1E821MPD6]

## UHW1A103MHD
designator C?, comment 10000uF  (value not drawn)
CAP ALUM 10000UF 20% 10V RADIAL; Part Number: UHW1A103MHD; Manufacturer: Nichicon; TemperatureRange: -40C ~ 105C; Type: Polar; Ripple Current: 3.4A @ 120Hz; Impedance: 11 mOhm; Value: 10000uF; PartId: 27235; Supplier 1: Digi-Key; Supplier Part Number 1: 493-6929-ND; ComponentLink1Description: Datasheet; ComponentLink1URL: http://nichicon-us.com/english/products/pdfs/e-uhw.pdf; ComponentLink2Description: Digi-Key Listing; ComponentLink2URL: https://www.digikey.com/product-detail/en/nichicon/UHW1A103MHD/493-6929-ND/3664501; Tolerance: 20%; Voltage: 10V; Price: 2.49; Device Package: Radial, Can, 16mm
footprint CAP AL TH D16 L7.5 H33.5
pins: 1, 2

## UHW1A122MPD
designator C?, comment 1200uF  (value not drawn)
CAP ALUM 1200UF 20% 10V RADIAL; Part Number: UHW1A122MPD; Manufacturer: Nichicon; TemperatureRange: -40C ~ 105C; Type: Polar; Ripple Current: 1.2A @ 120Hz; Impedance: 30 mOhm; Value: 1200uF; PartId: 25414; Supplier 1: Digi-Key; Supplier Part Number 1: 493-6947-ND; ComponentLink1Description: Datasheet; ComponentLink1URL: http://nichicon-us.com/english/products/pdfs/e-uhw.pdf; ComponentLink2Description: Digi-Key Listing; ComponentLink2URL: https://www.digikey.com/product-detail/en/nichicon/UHW1A122MPD/493-6947-ND/3664407; Tolerance: 20%; Voltage: 10V; Price: 0.85; Device Package: Radial, Can, 10mm
footprint CAP AL TH D10 L5 H17.5
pins: 1, 2

## UHW1A152MPD
designator C?, comment 1500uF  (value not drawn)
CAP ALUM 1500UF 20% 10V RADIAL; Part Number: UHW1A152MPD; Manufacturer: Nichicon; TemperatureRange: -40C ~ 105C; Type: Polar; Ripple Current: 1.2A @ 120Hz; Impedance: 30 mOhm; Value: 1500uF; PartId: 25394; Supplier 1: Digi-Key; Supplier Part Number 1: 493-6819-ND; ComponentLink1Description: Datasheet; ComponentLink1URL: http://nichicon-us.com/english/products/pdfs/e-uhw.pdf; ComponentLink2Description: Digi-Key Listing; ComponentLink2URL: https://www.digikey.com/product-detail/en/nichicon/UHW1A152MPD/493-6819-ND/3664473; Tolerance: 20%; Voltage: 10V; Price: 0.79; Device Package: Radial, Can, 10mm
footprint CAP AL TH D10 L5 H17.5
pins: 1, 2

## UHW1A182MPD
designator C?, comment 1800uF  (value not drawn)
CAP ALUM 1800UF 20% 10V RADIAL; Part Number: UHW1A182MPD; Manufacturer: Nichicon; TemperatureRange: -40C ~ 105C; Type: Polar; Ripple Current: 1.5A @ 120Hz; Impedance: 19 mOhm; Value: 1800uF; PartId: 25974; Supplier 1: Digi-Key; Supplier Part Number 1: 493-6818-ND; ComponentLink1Description: Datasheet; ComponentLink1URL: http://nichicon-us.com/english/products/pdfs/e-uhw.pdf; ComponentLink2Description: Digi-Key Listing; ComponentLink2URL: https://www.digikey.com/product-detail/en/nichicon/UHW1A182MPD/493-6818-ND/3664419; Tolerance: 20%; Voltage: 10V; Price: 0.88; Device Package: Radial, Can, 10mm
footprint CAP AL TH D10 L5 H22
pins: 1, 2

## UHW1A222MPD
designator C?, comment 2200uF  (value not drawn)
CAP ALUM 2200UF 20% 10V RADIAL; Part Number: UHW1A222MPD; Manufacturer: Nichicon; TemperatureRange: -40C ~ 105C; Type: Polar; Ripple Current: 2.465A @ 120Hz; Impedance: 17 mOhm; Value: 2200uF; PartId: 26171; Supplier 1: Digi-Key; Supplier Part Number 1: 493-6967-ND; ComponentLink1Description: Datasheet; ComponentLink1URL: http://nichicon-us.com/english/products/pdfs/e-uhw.pdf; ComponentLink2Description: Digi-Key Listing; ComponentLink2URL: https://www.digikey.com/product-detail/en/nichicon/UHW1A222MPD/493-6967-ND/3664477; Tolerance: 20%; Voltage: 10V; Price: 0.95; Device Package: Radial, Can, 10mm
footprint CAP AL TH D10 L5 H30
pins: 1, 2

## UHW1A272MHD
designator C?, comment 2700uF  (value not drawn)
CAP ALUM 2700UF 20% 10V RADIAL; Part Number: UHW1A272MHD; Manufacturer: Nichicon; TemperatureRange: -40C ~ 105C; Type: Polar; Ripple Current: 1.95A @ 120Hz; Impedance: 16 mOhm; Value: 2700uF; PartId: 23488; Supplier 1: Digi-Key; Supplier Part Number 1: 493-6844-ND; ComponentLink1Description: Datasheet; ComponentLink1URL: http://nichicon-us.com/english/products/pdfs/e-uhw.pdf; ComponentLink2Description: Digi-Key Listing; ComponentLink2URL: https://www.digikey.com/product-detail/en/nichicon/UHW1A272MHD/493-6844-ND/3664426; Tolerance: 20%; Voltage: 10V; Price: 1.17; Device Package: Radial, Can, 12.5mm
footprint CAP AL TH D12.5 L5 H22
pins: 1, 2

## UHW1A332MHD
designator C?, comment 3300uF  (value not drawn)
CAP ALUM 3300UF 20% 10V RADIAL; Part Number: UHW1A332MHD; Manufacturer: Nichicon; TemperatureRange: -40C ~ 105C; Type: Polar; Ripple Current: 1.95A @ 120Hz; Impedance: 16 mOhm; Value: 3300uF; PartId: 23494; Supplier 1: Digi-Key; Supplier Part Number 1: 493-6843-ND; ComponentLink1Description: Datasheet; ComponentLink1URL: http://nichicon-us.com/english/products/pdfs/e-uhw.pdf; ComponentLink2Description: Digi-Key Listing; ComponentLink2URL: https://www.digikey.com/product-detail/en/nichicon/UHW1A332MHD/493-6843-ND/3664430; Tolerance: 20%; Voltage: 10V; Price: 1.19; Device Package: Radial, Can, 12.5mm
footprint CAP AL TH D12.5 L5 H22
pins: 1, 2

## UHW1A392MHD
designator C?, comment 3900uF  (value not drawn)
CAP ALUM 3900UF 20% 10V RADIAL; Part Number: UHW1A392MHD; Manufacturer: Nichicon; TemperatureRange: -40C ~ 105C; Type: Polar; Ripple Current: 2.4A @ 120Hz; Impedance: 15 mOhm; Value: 3900uF; PartId: 24124; Supplier 1: Digi-Key; Supplier Part Number 1: 493-6888-ND; ComponentLink1Description: Datasheet; ComponentLink1URL: http://nichicon-us.com/english/products/pdfs/e-uhw.pdf; ComponentLink2Description: Digi-Key Listing; ComponentLink2URL: https://www.digikey.com/product-detail/en/nichicon/UHW1A392MHD/493-6888-ND/3664433; Tolerance: 20%; Voltage: 10V; Price: 1.42; Device Package: Radial, Can, 12.5mm
footprint CAP AL TH D12.5 L5 H27
pins: 1, 2

## UHW1A472MHD
designator C?, comment 4700uF  (value not drawn)
CAP ALUM 4700UF 20% 10V RADIAL; Part Number: UHW1A472MHD; Manufacturer: Nichicon; TemperatureRange: -40C ~ 105C; Type: Polar; Ripple Current: 3.226A @ 120Hz; Impedance: 12 mOhm; Value: 4700uF; PartId: 24378; Supplier 1: Digi-Key; Supplier Part Number 1: 493-6854-ND; ComponentLink1Description: Datasheet; ComponentLink1URL: http://nichicon-us.com/english/products/pdfs/e-uhw.pdf; ComponentLink2Description: Digi-Key Listing; ComponentLink2URL: https://www.digikey.com/product-detail/en/nichicon/UHW1A472MHD/493-6854-ND/3664438; Tolerance: 20%; Voltage: 10V; Price: 1.68; Device Package: Radial, Can, 12.5mm
footprint CAP AL TH D12.5 L5 H35.5
pins: 1, 2

## UHW1A472MHD6
designator C?, comment 4700uF  (value not drawn)
CAP ALUM 4700UF 20% 10V RADIAL; Part Number: UHW1A472MHD6; Manufacturer: Nichicon; TemperatureRange: -40C ~ 105C; Type: Polar; Ripple Current: 3.039A @ 120Hz; Impedance: 14 mOhm; Value: 4700uF; PartId: 26473; Supplier 1: Digi-Key; Supplier Part Number 1: 493-6831-ND; ComponentLink1Description: Datasheet; ComponentLink1URL: http://nichicon-us.com/english/products/pdfs/e-uhw.pdf; ComponentLink2Description: Digi-Key Listing; ComponentLink2URL: https://www.digikey.com/product-detail/en/nichicon/UHW1A472MHD6/493-6831-ND/3664443; Tolerance: 20%; Voltage: 10V; Price: 1.73; Device Package: Radial, Can, 16mm
footprint CAP AL TH D16 L7.5 H22
pins: 1, 2

## UHW1A562MHD6
designator C?, comment 5600uF  (value not drawn)
CAP ALUM 5600UF 20% 10V RADIAL; Part Number: UHW1A562MHD6; Manufacturer: Nichicon; TemperatureRange: -40C ~ 105C; Type: Polar; Ripple Current: 3.239A @ 120Hz; Impedance: 13 mOhm; Value: 5600uF; PartId: 26944; Supplier 1: Digi-Key; Supplier Part Number 1: 493-6883-ND; ComponentLink1Description: Datasheet; ComponentLink1URL: http://nichicon-us.com/english/products/pdfs/e-uhw.pdf; ComponentLink2Description: Digi-Key Listing; ComponentLink2URL: https://www.digikey.com/product-detail/en/nichicon/UHW1A562MHD6/493-6883-ND/3664450; Tolerance: 20%; Voltage: 10V; Price: 1.94; Device Package: Radial, Can, 16mm
footprint CAP AL TH D16 L7.5 H27
pins: 1, 2

## UHW1A682MHD
designator C?, comment 6800uF  (value not drawn)
CAP ALUM 6800UF 20% 10V RADIAL; Part Number: UHW1A682MHD; Manufacturer: Nichicon; TemperatureRange: -40C ~ 105C; Type: Polar; Ripple Current: 3.239A @ 120Hz; Impedance: 13 mOhm; Value: 6800uF; PartId: 26953; Supplier 1: Digi-Key; Supplier Part Number 1: 493-6933-ND; ComponentLink1Description: Datasheet; ComponentLink1URL: http://nichicon-us.com/english/products/pdfs/e-uhw.pdf; ComponentLink2Description: Digi-Key Listing; ComponentLink2URL: https://www.digikey.com/product-detail/en/nichicon/UHW1A682MHD/493-6933-ND/3664493; Tolerance: 20%; Voltage: 10V; Price: 2.06; Device Package: Radial, Can, 16mm
footprint CAP AL TH D16 L7.5 H27
pins: 1, 2

## UHW1A822MHD
designator C?, comment 8200uF  (value not drawn)
CAP ALUM 8200UF 20% 10V RADIAL; Part Number: UHW1A822MHD; Manufacturer: Nichicon; TemperatureRange: -40C ~ 105C; Type: Polar; Ripple Current: 3.4A @ 120Hz; Impedance: 11 mOhm; Value: 8200uF; PartId: 27232; Supplier 1: Digi-Key; Supplier Part Number 1: 493-6851-ND; ComponentLink1Description: Datasheet; ComponentLink1URL: http://nichicon-us.com/english/products/pdfs/e-uhw.pdf; ComponentLink2Description: Digi-Key Listing; ComponentLink2URL: https://www.digikey.com/product-detail/en/nichicon/UHW1A822MHD/493-6851-ND/3664496; Tolerance: 20%; Voltage: 10V; Price: 2.46; Device Package: Radial, Can, 16mm
footprint CAP AL TH D16 L7.5 H33.5
pins: 1, 2

## UHW1C102MPD
designator C?, comment 1000uF  (value not drawn)
CAP ALUM 1000UF 20% 16V RADIAL; Part Number: UHW1C102MPD; Manufacturer: Nichicon; TemperatureRange: -40C ~ 105C; Type: Polar; Ripple Current: 1.2A @ 120Hz; Impedance: 30 mOhm; Value: 1000uF; PartId: 25391; Supplier 1: Digi-Key; Supplier Part Number 1: 493-6969-ND; ComponentLink1Description: Datasheet; ComponentLink1URL: http://nichicon-us.com/english/products/pdfs/e-uhw.pdf; ComponentLink2Description: Digi-Key Listing; ComponentLink2URL: https://www.digikey.com/product-detail/en/nichicon/UHW1C102MPD/493-6969-ND/3664350; Tolerance: 20%; Voltage: 16V; Price: 0.78; Device Package: Radial, Can, 10mm
footprint CAP AL TH D10 L5 H17.5
pins: 1, 2

## UHW1C122MPD
designator C?, comment 1200uF  (value not drawn)
CAP ALUM 1200UF 20% 16V RADIAL; Part Number: UHW1C122MPD; Manufacturer: Nichicon; TemperatureRange: -40C ~ 105C; Type: Polar; Ripple Current: 1.5A @ 120Hz; Impedance: 19 mOhm; Value: 1200uF; PartId: 25969; Supplier 1: Digi-Key; Supplier Part Number 1: 493-6949-ND; ComponentLink1Description: Datasheet; ComponentLink1URL: http://nichicon-us.com/english/products/pdfs/e-uhw.pdf; ComponentLink2Description: Digi-Key Listing; ComponentLink2URL: https://www.digikey.com/product-detail/en/nichicon/UHW1C122MPD/493-6949-ND/3664353; Tolerance: 20%; Voltage: 16V; Price: 0.85; Device Package: Radial, Can, 10mm
footprint CAP AL TH D10 L5 H22
pins: 1, 2

## UHW1C122MPD6
designator C?, comment 1200uF  (value not drawn)
CAP ALUM 1200UF 20% 16V RADIAL; Part Number: UHW1C122MPD6; Manufacturer: Nichicon; TemperatureRange: -40C ~ 105C; Type: Polar; Ripple Current: 1.2A @ 120Hz; Impedance: 30 mOhm; Value: 1200uF; PartId: 25398; Supplier 1: Digi-Key; Supplier Part Number 1: 493-6874-ND; ComponentLink1Description: Datasheet; ComponentLink1URL: http://nichicon-us.com/english/products/pdfs/e-uhw.pdf; ComponentLink2Description: Digi-Key Listing; ComponentLink2URL: https://www.digikey.com/product-detail/en/nichicon/UHW1C122MPD6/493-6874-ND/3664358; Tolerance: 20%; Voltage: 16V; Price: 0.8; Device Package: Radial, Can, 10mm
footprint CAP AL TH D10 L5 H17.5
pins: 1, 2

## UHW1C152MPD
designator C?, comment 1500uF  (value not drawn)
CAP ALUM 1500UF 20% 16V RADIAL; Part Number: UHW1C152MPD; Manufacturer: Nichicon; TemperatureRange: -40C ~ 105C; Type: Polar; Ripple Current: 1.5A @ 120Hz; Impedance: 19 mOhm; Value: 1500uF; PartId: 25980; Supplier 1: Digi-Key; Supplier Part Number 1: 493-6909-ND; ComponentLink1Description: Datasheet; ComponentLink1URL: http://nichicon-us.com/english/products/pdfs/e-uhw.pdf; ComponentLink2Description: Digi-Key Listing; ComponentLink2URL: https://www.digikey.com/product-detail/en/nichicon/UHW1C152MPD/493-6909-ND/3664326; Tolerance: 20%; Voltage: 16V; Price: 0.92; Device Package: Radial, Can, 10mm
footprint CAP AL TH D10 L5 H22
pins: 1, 2

## UHW1C182MPD
designator C?, comment 1800uF  (value not drawn)
CAP ALUM 1800UF 20% 16V RADIAL; Part Number: UHW1C182MPD; Manufacturer: Nichicon; TemperatureRange: -40C ~ 105C; Type: Polar; Ripple Current: 1.74A @ 120Hz; Impedance: 17 mOhm; Value: 1800uF; PartId: 26174; Supplier 1: Digi-Key; Supplier Part Number 1: 493-6872-ND; ComponentLink1Description: Datasheet; ComponentLink1URL: http://nichicon-us.com/english/products/pdfs/e-uhw.pdf; ComponentLink2Description: Digi-Key Listing; ComponentLink2URL: https://www.digikey.com/product-detail/en/nichicon/UHW1C182MPD/493-6872-ND/3664359; Tolerance: 20%; Voltage: 16V; Price: 0.96; Device Package: Radial, Can, 10mm
footprint CAP AL TH D10 L5 H30
pins: 1, 2

## UHW1C222MHD
designator C?, comment 2200uF  (value not drawn)
CAP ALUM 2200UF 20% 16V RADIAL; Part Number: UHW1C222MHD; Manufacturer: Nichicon; TemperatureRange: -40C ~ 105C; Type: Polar; Ripple Current: 1.95A @ 120Hz; Impedance: 16 mOhm; Value: 2200uF; PartId: 23493; Supplier 1: Digi-Key; Supplier Part Number 1: 493-6968-ND; ComponentLink1Description: Datasheet; ComponentLink1URL: http://nichicon-us.com/english/products/pdfs/e-uhw.pdf; ComponentLink2Description: Digi-Key Listing; ComponentLink2URL: https://www.digikey.com/product-detail/en/nichicon/UHW1C222MHD/493-6968-ND/3664362; Tolerance: 20%; Voltage: 16V; Price: 1.19; Device Package: Radial, Can, 12.5mm
footprint CAP AL TH D12.5 L5 H22
pins: 1, 2

## UHW1C272MHD
designator C?, comment 2700uF  (value not drawn)
CAP ALUM 2700UF 20% 16V RADIAL; Part Number: UHW1C272MHD; Manufacturer: Nichicon; TemperatureRange: -40C ~ 105C; Type: Polar; Ripple Current: 2.4A @ 120Hz; Impedance: 15 mOhm; Value: 2700uF; PartId: 24115; Supplier 1: Digi-Key; Supplier Part Number 1: 493-6845-ND; ComponentLink1Description: Datasheet; ComponentLink1URL: http://nichicon-us.com/english/products/pdfs/e-uhw.pdf; ComponentLink2Description: Digi-Key Listing; ComponentLink2URL: https://www.digikey.com/product-detail/en/nichicon/UHW1C272MHD/493-6845-ND/3664464; Tolerance: 20%; Voltage: 16V; Price: 1.39; Device Package: Radial, Can, 12.5mm
footprint CAP AL TH D12.5 L5 H27
pins: 1, 2

## UHW1C332MHD
designator C?, comment 3300uF  (value not drawn)
CAP ALUM 3300UF 20% 16V RADIAL; Part Number: UHW1C332MHD; Manufacturer: Nichicon; TemperatureRange: -40C ~ 105C; Type: Polar; Ripple Current: 2.4A @ 120Hz; Impedance: 15 mOhm; Value: 3300uF; PartId: 24132; Supplier 1: Digi-Key; Supplier Part Number 1: 493-6924-ND; ComponentLink1Description: Datasheet; ComponentLink1URL: http://nichicon-us.com/english/products/pdfs/e-uhw.pdf; ComponentLink2Description: Digi-Key Listing; ComponentLink2URL: https://www.digikey.com/product-detail/en/nichicon/UHW1C332MHD/493-6924-ND/3664466; Tolerance: 20%; Voltage: 16V; Price: 1.44; Device Package: Radial, Can, 12.5mm
footprint CAP AL TH D12.5 L5 H27
pins: 1, 2

## UHW1C332MHD6
designator C?, comment 3300uF  (value not drawn)
CAP ALUM 3300UF 20% 16V RADIAL; Part Number: UHW1C332MHD6; Manufacturer: Nichicon; TemperatureRange: -40C ~ 105C; Type: Polar; Ripple Current: 2.681A @ 120Hz; Impedance: 14 mOhm; Value: 3300uF; PartId: 26485; Supplier 1: Digi-Key; Supplier Part Number 1: 493-6923-ND; ComponentLink1Description: Datasheet; ComponentLink1URL: http://nichicon-us.com/english/products/pdfs/e-uhw.pdf; ComponentLink2Description: Digi-Key Listing; ComponentLink2URL: https://www.digikey.com/product-detail/en/nichicon/UHW1C332MHD6/493-6923-ND/3664392; Tolerance: 20%; Voltage: 16V; Price: 1.82; Device Package: Radial, Can, 16mm
footprint CAP AL TH D16 L7.5 H22
pins: 1, 2

## UHW1C392MHD
designator C?, comment 3900uF  (value not drawn)
CAP ALUM 3900UF 20% 16V RADIAL; Part Number: UHW1C392MHD; Manufacturer: Nichicon; TemperatureRange: -40C ~ 105C; Type: Polar; Ripple Current: 2.846A @ 120Hz; Impedance: 12 mOhm; Value: 3900uF; PartId: 24377; Supplier 1: Digi-Key; Supplier Part Number 1: 493-6906-ND; ComponentLink1Description: Datasheet; ComponentLink1URL: http://nichicon-us.com/english/products/pdfs/e-uhw.pdf; ComponentLink2Description: Digi-Key Listing; ComponentLink2URL: https://www.digikey.com/product-detail/en/nichicon/UHW1C392MHD/493-6906-ND/3664395; Tolerance: 20%; Voltage: 16V; Price: 1.68; Device Package: Radial, Can, 12.5mm
footprint CAP AL TH D12.5 L5 H35.5
pins: 1, 2